# Altium footprint library DIOM5436X261N.PcbLib: 2 footprints
Each footprint in its own frame and in the unit in brackets; x right, y up, seen from the top. Pads: shape width x height; smd on the part's side, far side on the other; paste and mask are expansions set on the pad; w line width, h text height; cw(c..) or ccw(c..) is an arc to the next point about the centre after c.
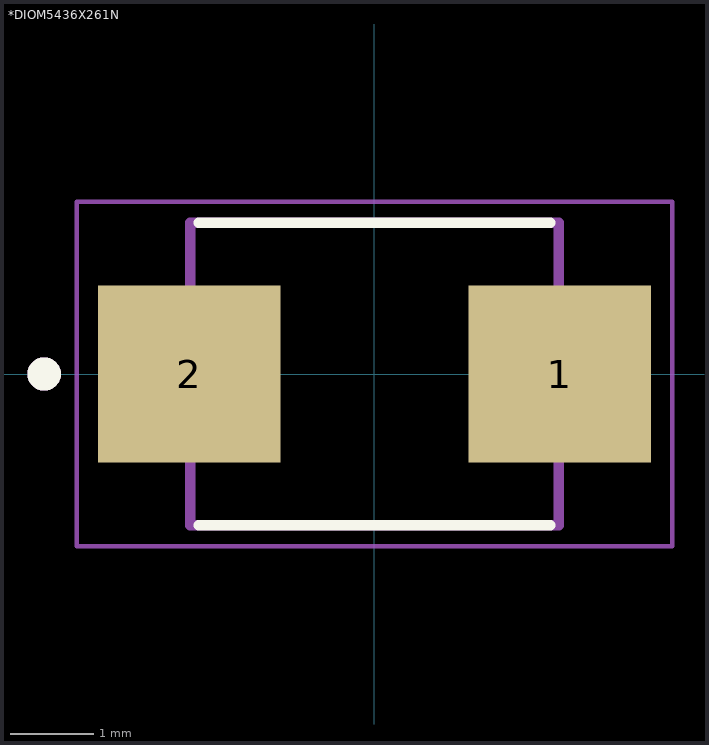
[diagram p0: the footprints below, top view; thin cyan lines are the x and y axes]

## *DIOM5436X261N [mm]
pads (2):
  rect 2.18x2.12 smd: 1(2.215,0) 2(-2.215,0)
Top Overlay:
  circle w0.2: c-3.95,0 r0.1
  lines w0.127: -2.103,-1.81 2.103,-1.81 ; -2.103,1.81 2.103,1.81
Mechanical 4:
  circle w0.2: c-3.95,0 r0.1
  circle w0.2: c-3.95,0 r0.1
  lines w0.127: -2.203,-1.81 -2.203,1.81 ; -2.203,-1.81 2.203,-1.81 ; -2.203,-1.81 -2.203,1.81 ; -2.203,-1.81 2.203,-1.81 ; -2.203,1.81 2.203,1.81 ; -2.203,1.81 2.203,1.81 ; 2.203,-1.81 2.203,1.81 ; 2.203,-1.81 2.203,1.81
Mechanical 16:
  lines w0.05: -3.56,-2.06 3.56,-2.06 3.56,2.06 -3.56,2.06 -3.56,-2.06

## PCBComponent_1 [mm]